# Altium footprint library LABLIB.PcbLib: 240 footprints (part 10 of 17)
Each footprint in its own frame and in the unit in brackets; x right, y up, seen from the top. Pads: shape width x height; smd on the part's side, far side on the other; paste and mask are expansions set on the pad; w line width, h text height; cw(c..) or ccw(c..) is an arc to the next point about the centre after c.
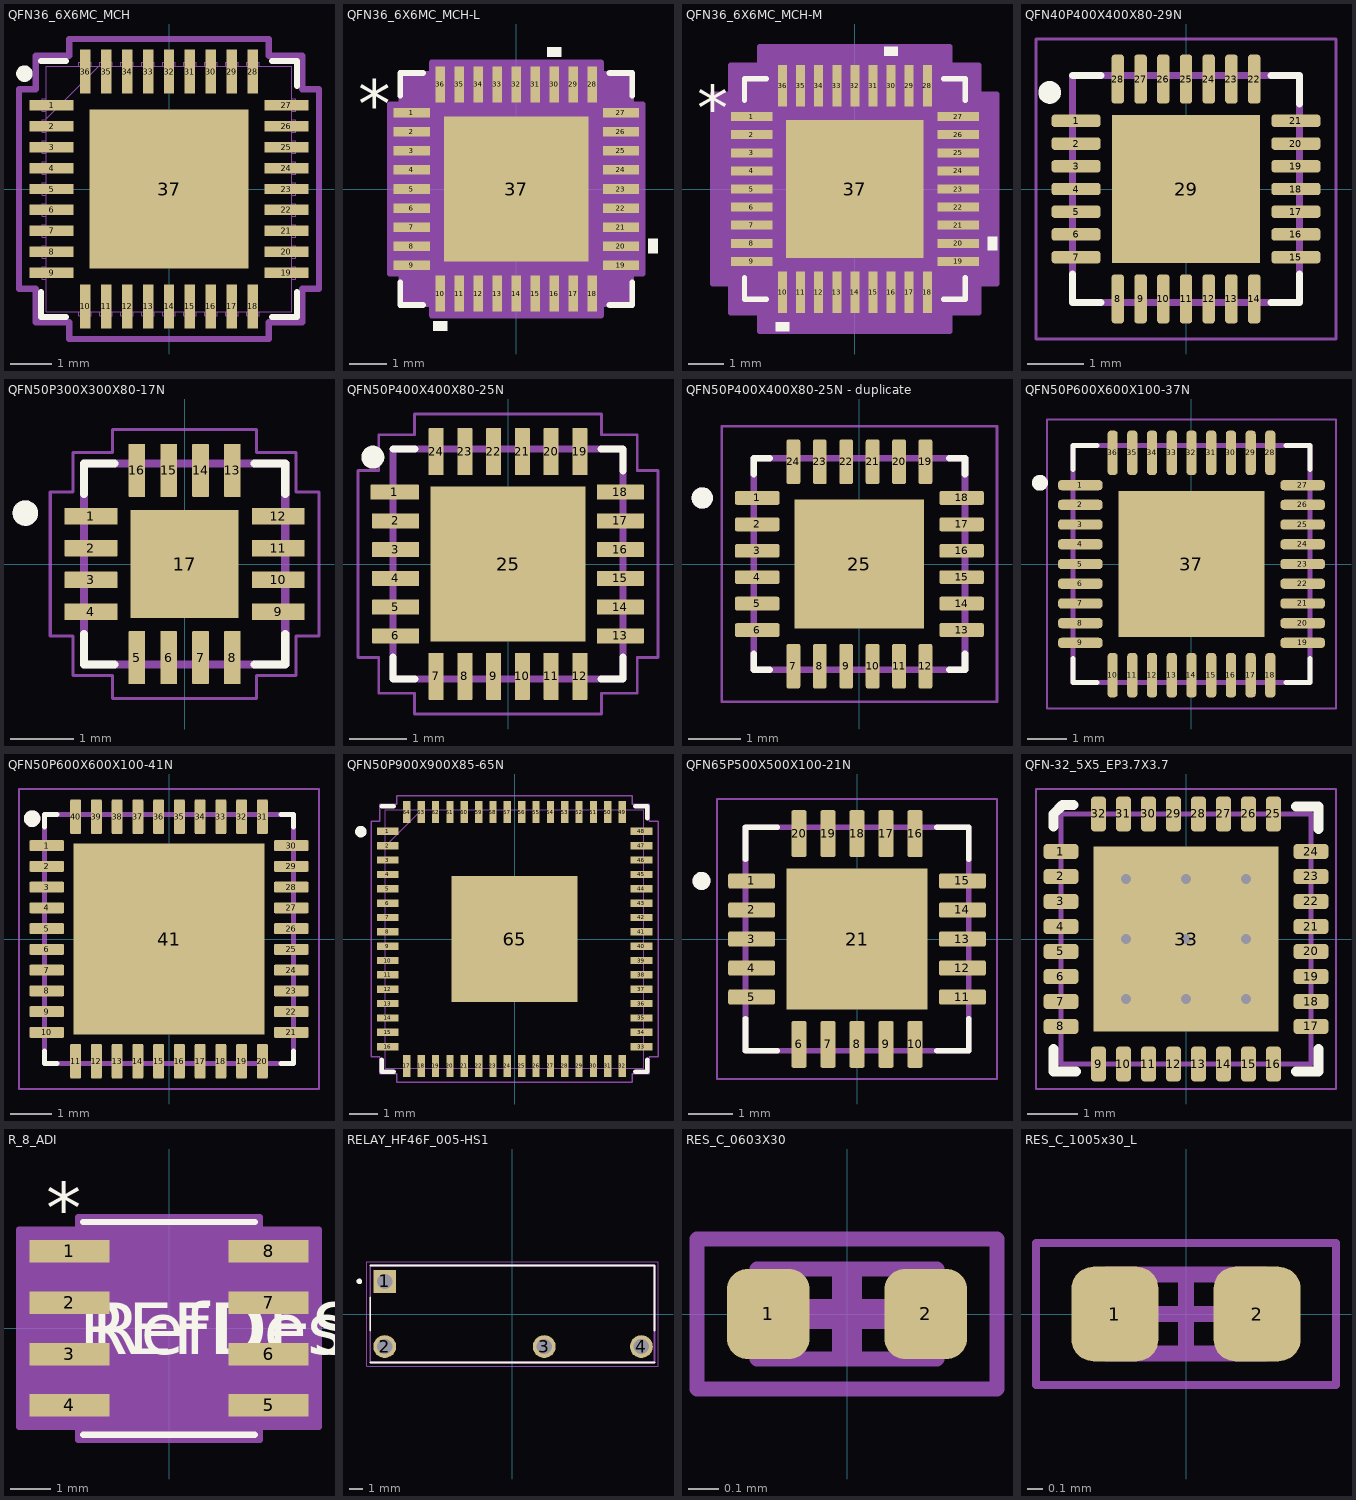
[diagram p9: the footprints below, top view; thin cyan lines are the x and y axes]

## QFN36_6X6MC_MCH [mil]
pads (37):
  rect 42x10 smd paste+0 mask+0: 1(-112,80) 2(-112,60) 3(-112,40) 4(-112,20) 5(-112,0) 6(-112,-20) 7(-112,-40) 8(-112,-60) 9(-112,-80) 19(112,-80) 20(112,-60) 21(112,-40) 22(112,-20) 23(112,0) 24(112,20) 25(112,40) 26(112,60) 27(112,80)
  rect 10x42 smd paste+0 mask+0: 10(-80,-112) 11(-60,-112) 12(-40,-112) 13(-20,-112) 14(0,-112) 15(20,-112) 16(40,-112) 17(60,-112) 18(80,-112) 28(80,112) 29(60,112) 30(40,112) 31(20,112) 32(0,112) 33(-20,112) 34(-40,112) 35(-60,112) 36(-80,112)
  rect 152x152 smd paste-7.87 mask+0: 37(0,0)
Top Overlay:
  circle w7.87: c-137.81,109.99 r3.94
  lines w6: -122,-98.1 -122,-122 -98.1,-122 ; -122,122 -98.1,122 ; 98.1,-122 122,-122 122,-98.1 ; 98.1,122 122,122 122,98.1
Top Paste:
  drawing of 25 lines, arcs and shapes, not listed
Top Solder:
  region: 54.37,-78.5 54.37,78.5 78.5,78.5 78.5,-78.5
  region: 38.63,-78.5 38.63,78.5 23.37,78.5 23.37,-78.5
  region: 7.63,-78.5 7.63,78.5 -7.63,78.5 -7.63,-78.5
  region: -23.37,-78.5 -23.37,78.5 -38.63,78.5 -38.63,-78.5
  region: -78.5,-78.5 -78.5,78.5 -54.37,78.5 -54.37,-78.5
  region: -78.5,-78.5 -78.5,-54.37 78.5,-54.37 78.5,-78.5
  region: -78.5,-38.63 -78.5,-23.37 78.5,-23.37 78.5,-38.63
  region: -78.5,-7.63 -78.5,7.63 78.5,7.63 78.5,-7.63
  region: -78.5,23.37 -78.5,38.63 78.5,38.63 78.5,23.37
  region: -78.5,54.37 -78.5,78.5 78.5,78.5 78.5,54.37
Top Courtyard:
  lines w6: -143,-95 -127,-95 -127,-127 -95,-127 -95,-143 95,-143 95,-127 127,-127 127,-95 143,-95 143,95 127,95 127,127 95,127 95,143 -95,143 -95,127 -127,127 -127,95 -143,95 -143,-95
Mechanical 13:
  lines w1: -117,67 -67,117 ; -121,-86 -117,-86 -117,-74 -121,-74 -121,-86 ; -121,-66 -117,-66 -117,-54 -121,-54 -121,-66 ; -121,-46 -117,-46 -117,-34 -121,-34 -121,-46 ; -121,-26 -117,-26 -117,-14 -121,-14 -121,-26 ; -121,-6 -117,-6 -117,6 -121,6 -121,-6 ; -121,14 -117,14 -117,26 -121,26 -121,14 ; -121,34 -117,34 -117,46 -121,46 -121,34 ; -121,54 -117,54 -117,66 -121,66 -121,54 ; -121,74 -117,74 -117,86 -121,86 -121,74 ; -117,-117 -117,117 117,117 117,-117 -117,-117 ; -86,-121 -74,-121 -74,-117 -86,-117 -86,-121 ; -86,117 -86,121 -74,121 -74,117 -86,117 ; -66,-121 -54,-121 -54,-117 -66,-117 -66,-121 ; -66,117 -66,121 -54,121 -54,117 -66,117 ; -46,-121 -34,-121 -34,-117 -46,-117 -46,-121 ; -46,117 -46,121 -34,121 -34,117 -46,117 ; -26,-121 -14,-121 -14,-117 -26,-117 -26,-121 ; -26,117 -26,121 -14,121 -14,117 -26,117 ; -6,-121 6,-121 6,-117 -6,-117 -6,-121 ; -6,117 -6,121 6,121 6,117 -6,117 ; 14,-121 26,-121 26,-117 14,-117 14,-121 ; 14,117 14,121 26,121 26,117 14,117 ; 34,-121 46,-121 46,-117 34,-117 34,-121 ; 34,117 34,121 46,121 46,117 34,117 ; 54,-121 66,-121 66,-117 54,-117 54,-121 ; 54,117 54,121 66,121 66,117 54,117 ; 74,-121 86,-121 86,-117 74,-117 74,-121 ; 74,117 74,121 86,121 86,117 74,117 ; 117,-86 121,-86 121,-74 117,-74 117,-86 ; 117,-66 121,-66 121,-54 117,-54 117,-66 ; 117,-46 121,-46 121,-34 117,-34 117,-46 ; 117,-26 121,-26 121,-14 117,-14 117,-26 ; 117,-6 121,-6 121,6 117,6 117,-6 ; 117,14 121,14 121,26 117,26 117,14 ; 117,34 121,34 121,46 117,46 117,34 ; 117,54 121,54 121,66 117,66 117,54 ; 117,74 121,74 121,86 117,86 117,74
  text "*" at -103.5,65 h50
  text ".Designator" at -137.8,-23.62 h50
3D body "QFN36_6X6MC_MCH.step": height 65.12, standoff 0, extent -120.98,-120.98 120.98,120.98

## QFN36_6X6MC_MCH-L [mil]
pads (37):
  rect 38x10 smd paste+0 mask+0: 1(-110,80) 2(-110,60) 3(-110,40) 4(-110,20) 5(-110,0) 6(-110,-20) 7(-110,-40) 8(-110,-60) 9(-110,-80) 19(110,-80) 20(110,-60) 21(110,-40) 22(110,-20) 23(110,0) 24(110,20) 25(110,40) 26(110,60) 27(110,80)
  rect 10x38 smd paste+0 mask+0: 10(-80,-110) 11(-60,-110) 12(-40,-110) 13(-20,-110) 14(0,-110) 15(20,-110) 16(40,-110) 17(60,-110) 18(80,-110) 28(80,110) 29(60,110) 30(40,110) 31(20,110) 32(0,110) 33(-20,110) 34(-40,110) 35(-60,110) 36(-80,110)
  rect 152x152 smd paste-75.5 mask-75.5: 37(0,0)
Top Overlay:
  region: 47.5,139 32.5,139 32.5,149 47.5,149
  region: 139,-52.5 149,-52.5 149,-67.5 139,-67.5
  region: -72.5,-139 -87.5,-139 -87.5,-149 -72.5,-149
  lines w6: -122,-98.1 -122,-122 -98.1,-122 ; -122,98.1 -122,122 -98.1,122 ; 98.1,-122 122,-122 122,-98.1 ; 98.1,122 122,122 122,98.1
  text ".Designator" at -137.5,-25 h50
  text "*" at -166.5,65 h50
Top Paste:
  drawing of 25 lines, arcs and shapes, not listed
Top Solder:
  region: 54.37,-78.5 54.37,78.5 78.5,78.5 78.5,-78.5
  region: 38.63,-78.5 38.63,78.5 23.37,78.5 23.37,-78.5
  region: 7.63,-78.5 7.63,78.5 -7.63,78.5 -7.63,-78.5
  region: -23.37,-78.5 -23.37,78.5 -38.63,78.5 -38.63,-78.5
  region: -78.5,-78.5 -78.5,78.5 -54.37,78.5 -54.37,-78.5
  region: -78.5,-78.5 -78.5,-54.37 78.5,-54.37 78.5,-78.5
  region: -78.5,-38.63 -78.5,-23.37 78.5,-23.37 78.5,-38.63
  region: -78.5,-7.63 -78.5,7.63 78.5,7.63 78.5,-7.63
  region: -78.5,23.37 -78.5,38.63 78.5,38.63 78.5,23.37
  region: -78.5,54.37 -78.5,78.5 78.5,78.5 78.5,54.37
Mechanical 13:
  lines w1: -117,67 -67,117 ; -121,-86 -117,-86 -117,-74 -121,-74 -121,-86 ; -121,-66 -117,-66 -117,-54 -121,-54 -121,-66 ; -121,-46 -117,-46 -117,-34 -121,-34 -121,-46 ; -121,-26 -117,-26 -117,-14 -121,-14 -121,-26 ; -121,-6 -117,-6 -117,6 -121,6 -121,-6 ; -121,14 -117,14 -117,26 -121,26 -121,14 ; -121,34 -117,34 -117,46 -121,46 -121,34 ; -121,54 -117,54 -117,66 -121,66 -121,54 ; -121,74 -117,74 -117,86 -121,86 -121,74 ; -117,-117 -117,117 117,117 117,-117 -117,-117 ; -86,-121 -74,-121 -74,-117 -86,-117 -86,-121 ; -86,117 -86,121 -74,121 -74,117 -86,117 ; -66,-121 -54,-121 -54,-117 -66,-117 -66,-121 ; -66,117 -66,121 -54,121 -54,117 -66,117 ; -46,-121 -34,-121 -34,-117 -46,-117 -46,-121 ; -46,117 -46,121 -34,121 -34,117 -46,117 ; -26,-121 -14,-121 -14,-117 -26,-117 -26,-121 ; -26,117 -26,121 -14,121 -14,117 -26,117 ; -6,-121 6,-121 6,-117 -6,-117 -6,-121 ; -6,117 -6,121 6,121 6,117 -6,117 ; 14,-121 26,-121 26,-117 14,-117 14,-121 ; 14,117 14,121 26,121 26,117 14,117 ; 34,-121 46,-121 46,-117 34,-117 34,-121 ; 34,117 34,121 46,121 46,117 34,117 ; 54,-121 66,-121 66,-117 54,-117 54,-121 ; 54,117 54,121 66,121 66,117 54,117 ; 74,-121 86,-121 86,-117 74,-117 74,-121 ; 74,117 74,121 86,121 86,117 74,117 ; 117,-86 121,-86 121,-74 117,-74 117,-86 ; 117,-66 121,-66 121,-54 117,-54 117,-66 ; 117,-46 121,-46 121,-34 117,-34 117,-46 ; 117,-26 121,-26 121,-14 117,-14 117,-26 ; 117,-6 121,-6 121,6 117,6 117,-6 ; 117,14 121,14 121,26 117,26 117,14 ; 117,34 121,34 121,46 117,46 117,34 ; 117,54 121,54 121,66 117,66 117,54 ; 117,74 121,74 121,86 117,86 117,74
  text "*" at -103.5,65 h50
  text ".Designator" at -137.5,-25 h50
Mechanical 15:
  region: -89,-121 -121,-121 -121,-89 -133,-89 -133,89 -121,89 -121,121 -89,121 -89,133 89,133 89,121 121,121 121,89 133,89 133,-89 121,-89 121,-121 89,-121 89,-133 -89,-133
  lines w6: -133,-89 -133,89 -121,89 -121,121 -89,121 -89,133 89,133 89,121 121,121 121,89 133,89 133,-89 121,-89 121,-121 89,-121 89,-133 -89,-133 -89,-121 -121,-121 -121,-89 -133,-89
3D body "QFN36_6X6MC_MCH.step": height 65.12, standoff 0, extent -120.98,-120.98 120.98,120.98

## QFN36_6X6MC_MCH-M [mil]
pads (37):
  rect 46x10 smd paste+0 mask+0: 1(-114,80) 2(-114,60) 3(-114,40) 4(-114,20) 5(-114,0) 6(-114,-20) 7(-114,-40) 8(-114,-60) 9(-114,-80) 19(114,-80) 20(114,-60) 21(114,-40) 22(114,-20) 23(114,0) 24(114,20) 25(114,40) 26(114,60) 27(114,80)
  rect 10x46 smd paste+0 mask+0: 10(-80,-114) 11(-60,-114) 12(-40,-114) 13(-20,-114) 14(0,-114) 15(20,-114) 16(40,-114) 17(60,-114) 18(80,-114) 28(80,114) 29(60,114) 30(40,114) 31(20,114) 32(0,114) 33(-20,114) 34(-40,114) 35(-60,114) 36(-80,114)
  rect 152x152 smd paste-75.5 mask-75.5: 37(0,0)
Top Overlay:
  region: -72.5,-147 -87.5,-147 -87.5,-157 -72.5,-157
  region: 147,-52.5 157,-52.5 157,-67.5 147,-67.5
  region: 47.5,147 32.5,147 32.5,157 47.5,157
  lines w6: -122,-98.1 -122,-122 -98.1,-122 ; -122,98.1 -122,122 -98.1,122 ; 98.1,-122 122,-122 122,-98.1 ; 98.1,122 122,122 122,98.1
  text "*" at -174.5,65 h50
  text ".Designator" at -137.5,-25 h50
Top Paste:
  drawing of 25 lines, arcs and shapes, not listed
Top Solder:
  region: -78.5,54.37 -78.5,78.5 78.5,78.5 78.5,54.37
  region: -78.5,23.37 -78.5,38.63 78.5,38.63 78.5,23.37
  region: -78.5,-7.63 -78.5,7.63 78.5,7.63 78.5,-7.63
  region: -78.5,-38.63 -78.5,-23.37 78.5,-23.37 78.5,-38.63
  region: -78.5,-78.5 -78.5,-54.37 78.5,-54.37 78.5,-78.5
  region: -78.5,-78.5 -78.5,78.5 -54.37,78.5 -54.37,-78.5
  region: -23.37,-78.5 -23.37,78.5 -38.63,78.5 -38.63,-78.5
  region: 7.63,-78.5 7.63,78.5 -7.63,78.5 -7.63,-78.5
  region: 38.63,-78.5 38.63,78.5 23.37,78.5 23.37,-78.5
  region: 54.37,-78.5 54.37,78.5 78.5,78.5 78.5,-78.5
Mechanical 13:
  lines w1: -117,67 -67,117 ; -121,-86 -121,-74 -117,-74 -117,-86 -121,-86 ; -121,-66 -121,-54 -117,-54 -117,-66 -121,-66 ; -121,-46 -121,-34 -117,-34 -117,-46 -121,-46 ; -121,-26 -121,-14 -117,-14 -117,-26 -121,-26 ; -121,-6 -121,6 -117,6 -117,-6 -121,-6 ; -121,14 -121,26 -117,26 -117,14 -121,14 ; -121,34 -121,46 -117,46 -117,34 -121,34 ; -121,54 -121,66 -117,66 -117,54 -121,54 ; -121,74 -121,86 -117,86 -117,74 -121,74 ; -117,-117 117,-117 117,117 -117,117 -117,-117 ; -86,-121 -86,-117 -74,-117 -74,-121 -86,-121 ; -86,117 -74,117 -74,121 -86,121 -86,117 ; -66,-121 -66,-117 -54,-117 -54,-121 -66,-121 ; -66,117 -54,117 -54,121 -66,121 -66,117 ; -46,-121 -46,-117 -34,-117 -34,-121 -46,-121 ; -46,117 -34,117 -34,121 -46,121 -46,117 ; -26,-121 -26,-117 -14,-117 -14,-121 -26,-121 ; -26,117 -14,117 -14,121 -26,121 -26,117 ; -6,-121 -6,-117 6,-117 6,-121 -6,-121 ; -6,117 6,117 6,121 -6,121 -6,117 ; 14,-121 14,-117 26,-117 26,-121 14,-121 ; 14,117 26,117 26,121 14,121 14,117 ; 34,-121 34,-117 46,-117 46,-121 34,-121 ; 34,117 46,117 46,121 34,121 34,117 ; 54,-121 54,-117 66,-117 66,-121 54,-121 ; 54,117 66,117 66,121 54,121 54,117 ; 74,-121 74,-117 86,-117 86,-121 74,-121 ; 74,117 86,117 86,121 74,121 74,117 ; 117,-86 117,-74 121,-74 121,-86 117,-86 ; 117,-66 117,-54 121,-54 121,-66 117,-66 ; 117,-46 117,-34 121,-34 121,-46 117,-46 ; 117,-26 117,-14 121,-14 121,-26 117,-26 ; 117,-6 117,6 121,6 121,-6 117,-6 ; 117,14 117,26 121,26 121,14 117,14 ; 117,34 117,46 121,46 121,34 117,34 ; 117,54 117,66 121,66 121,54 117,54 ; 117,74 117,86 121,86 121,74 117,74
  text ".Designator" at -137.5,-25 h50
  text "*" at -103.5,65 h50
Mechanical 15:
  region: -105,-137 -137,-137 -137,-105 -157,-105 -157,105 -137,105 -137,137 -105,137 -105,157 105,157 105,137 137,137 137,105 157,105 157,-105 137,-105 137,-137 105,-137 105,-157 -105,-157
  lines w6: -157,-105 -137,-105 -137,-137 -105,-137 -105,-157 105,-157 105,-137 137,-137 137,-105 157,-105 157,105 137,105 137,137 105,137 105,157 -105,157 -105,137 -137,137 -137,105 -157,105 -157,-105
3D body "QFN36_6X6MC_MCH.step": height 65.12, standoff 0, extent -120.98,-120.98 120.98,120.98

## QFN40P400X400X80-29N [mm]
pads (29):
  rrect50% 0.86x0.22 smd mask+0: 1(-1.935,1.2) 2(-1.935,0.8) 3(-1.935,0.4) 4(-1.935,0) 5(-1.935,-0.4) 6(-1.935,-0.8) 7(-1.935,-1.2) 15(1.935,-1.2) 16(1.935,-0.8) 17(1.935,-0.4) 18(1.935,0) 19(1.935,0.4) 20(1.935,0.8) 21(1.935,1.2)
  rrect50% 0.22x0.86 smd mask+0: 8(-1.2,-1.935) 9(-0.8,-1.935) 10(-0.4,-1.935) 11(0,-1.935) 12(0.4,-1.935) 13(0.8,-1.935) 14(1.2,-1.935) 22(1.2,1.935) 23(0.8,1.935) 24(0.4,1.935) 25(0,1.935) 26(-0.4,1.935) 27(-0.8,1.935) 28(-1.2,1.935)
  rect 2.6x2.6 smd paste-0.2 mask+0.05: 29(0,0)
Top Overlay:
  circle w0.2: c-2.4,1.7 r0.1
  lines w0.127: -2,-1.5 -2,-2 -1.5,-2 ; -2,2 -1.5,2 ; 1.5,-2 2,-2 2,-1.5 ; 1.5,2 2,2 2,1.5
Top Paste:
  region: 1.045,-1.045 0.125,-1.045 0.125,-0.125 1.045,-0.125
  region: -0.125,-1.045 -1.045,-1.045 -1.045,-0.125 -0.125,-0.125
  region: -0.125,0.125 -1.045,0.125 -1.045,1.045 -0.125,1.045
  region: 1.045,0.125 0.125,0.125 0.125,1.045 1.045,1.045
Top Courtyard:
  lines w0.05: -2.64,-2.64 -2.64,2.64 2.64,2.64 2.64,-2.64 -2.64,-2.64
Top Component Outline:
  lines w0.127: -2,-2 -2,2 2,2 2,-2 -2,-2

## QFN50P300X300X80-17N [mm]
pads (17):
  rrect7% 0.83x0.26 smd mask+0.04: 1(-1.47,0.75) 2(-1.47,0.25) 3(-1.47,-0.25) 4(-1.47,-0.75) 9(1.47,-0.75) 10(1.47,-0.25) 11(1.47,0.25) 12(1.47,0.75)
  rrect7% 0.26x0.83 smd mask+0.04: 5(-0.75,-1.47) 6(-0.25,-1.47) 7(0.25,-1.47) 8(0.75,-1.47) 13(0.75,1.47) 14(0.25,1.47) 15(-0.25,1.47) 16(-0.75,1.47)
  rect 1.7x1.7 smd paste-0.2 mask+0.04: 17(0,0)
Top Overlay:
  circle w0.2: c-2.5,0.8 r0.1
  lines w0.127: -1.58,-1.1 -1.58,-1.58 -1.1,-1.58 ; -1.58,1.1 -1.58,1.58 -1.1,1.58 ; 1.1,-1.58 1.58,-1.58 1.58,-1.1 ; 1.1,1.58 1.58,1.58 1.58,1.1
Top Paste:
  region: -0.085,-0.685 -0.685,-0.685 -0.685,-0.085 -0.085,-0.085
  region: 0.685,-0.686 0.085,-0.686 0.085,-0.085 0.685,-0.085
  region: -0.085,0.085 -0.685,0.085 -0.685,0.685 -0.085,0.685
  region: 0.685,0.085 0.085,0.085 0.085,0.685 0.685,0.685
Top Assembly:
  text "'.Designator'" at -3.952,-0.622 h1.5
Top Courtyard:
  lines w0.05: -2.11,-1.13 -1.75,-1.13 -1.75,-1.75 -1.13,-1.75 -1.13,-2.11 1.13,-2.11 1.13,-1.75 1.75,-1.75 1.75,-1.13 2.11,-1.13 2.11,1.13 1.75,1.13 1.75,1.75 1.13,1.75 1.13,2.11 -1.13,2.11 -1.13,1.75 -1.75,1.75 -1.75,1.13 -2.11,1.13 -2.11,-1.13
Top Component Center:
  circle w0.05: c0,0 r0.3
  lines w0.05: -0.5,0 0.5,0 ; 0,-0.5 0,0.5
Mechanical 13:
  circle w0.2: c-2.5,0.8 r0.1
  lines w0.127: -1.58,-1.58 1.58,-1.58 1.58,1.58 -1.58,1.58 -1.58,-1.58
3D body "step_temp.STEP": height 0.8, standoff 0, extent -1.5,-1.5 1.5,1.5

## QFN50P400X400X80-25N [mm]
pads (25):
  rrect7% 0.84x0.26 smd mask+0.05: 1(-1.97,1.25)
  rrect7% 0.82x0.26 smd mask+0.05: 2(-1.955,0.75) 3(-1.955,0.25) 4(-1.955,-0.25) 5(-1.955,-0.75) 6(-1.955,-1.25) 13(1.955,-1.25) 14(1.955,-0.75) 15(1.955,-0.25) 16(1.955,0.25) 17(1.955,0.75) 18(1.955,1.25)
  rrect7% 0.26x0.82 smd mask+0.05: 7(-1.25,-1.955) 8(-0.75,-1.955) 9(-0.25,-1.955) 10(0.25,-1.955) 11(0.75,-1.955) 12(1.25,-1.955) 19(1.25,1.955) 20(0.75,1.955) 21(0.25,1.955) 22(-0.25,1.955) 23(-0.75,1.955) 24(-1.25,1.955)
  rect 2.7x2.7 smd paste-0.15 mask+0: 25(0,0)
Top Overlay:
  circle w0.2: c-2.352,1.859 r0.1
  lines w0.127: -2,-1.62 -2,-2 -1.62,-2 ; -2,2 -1.62,2 ; 1.62,-2 2,-2 2,-1.62 ; 1.62,2 2,2 2,1.62
Top Paste:
  region: 1.09,0.13 0.13,0.13 0.13,1.09 1.09,1.09
  region: -0.13,0.13 -1.09,0.13 -1.09,1.09 -0.13,1.09
  region: -0.13,-1.09 -1.09,-1.09 -1.09,-0.13 -0.13,-0.13
  region: 1.09,-1.09 0.13,-1.09 0.13,-0.13 1.09,-0.13
Top Assembly:
  lines w0.127: -2,-2 -2,2 2,2 2,-2 -2,-2
Top Courtyard:
  lines w0.05: -2.61,-1.63 -2.25,-1.63 -2.25,-2.25 -1.63,-2.25 -1.63,-2.61 1.63,-2.61 1.63,-2.25 2.25,-2.25 2.25,-1.63 2.61,-1.63 2.61,1.63 2.25,1.63 2.25,2.25 1.63,2.25 1.63,2.61 -1.63,2.61 -1.63,2.25 -2.25,2.25 -2.25,1.63 -2.61,1.63 -2.61,-1.63
3D body "step_temp.STEP": height 0.8, standoff 0, extent -2,-2 2,2

## QFN50P400X400X80-25N - duplicate [mm]
pads (25):
  rrect25% 0.84x0.26 smd: 1(-1.935,1.25) 2(-1.935,0.75) 3(-1.935,0.25) 4(-1.935,-0.25) 5(-1.935,-0.75) 6(-1.935,-1.25) 13(1.935,-1.25) 14(1.935,-0.75) 15(1.935,-0.25) 16(1.935,0.25) 17(1.935,0.75) 18(1.935,1.25)
  rrect25% 0.26x0.84 smd: 7(-1.25,-1.935) 8(-0.75,-1.935) 9(-0.25,-1.935) 10(0.25,-1.935) 11(0.75,-1.935) 12(1.25,-1.935) 19(1.25,1.935) 20(0.75,1.935) 21(0.25,1.935) 22(-0.25,1.935) 23(-0.75,1.935) 24(-1.25,1.935)
  rect 2.45x2.45 smd paste-0.455: 25(0,0)
Top Overlay:
  circle w0.2: c-2.975,1.25 r0.1
  lines w0.127: -2,-1.7 -2,-2 -1.7,-2 ; -2,1.7 -2,2 -1.7,2 ; 1.7,-2 2,-2 2,-1.7 ; 1.7,2 2,2 2,1.7
Mechanical 13:
  circle w0.2: c-2.975,1.25 r0.1
  lines w0.127: -2,-2 -2,2 2,2 2,-2 -2,-2
Mechanical 15:
  lines w0.05: -2.605,-2.605 -2.605,2.605 2.605,2.605 2.605,-2.605 -2.605,-2.605

## QFN50P600X600X100-37N [mm]
pads (37):
  rrect70% 1.13x0.26 smd: 1(-2.82,2) 2(-2.82,1.5) 3(-2.82,1) 4(-2.82,0.5) 5(-2.82,0) 6(-2.82,-0.5) 7(-2.82,-1) 8(-2.82,-1.5) 9(-2.82,-2) 19(2.82,-2) 20(2.82,-1.5) 21(2.82,-1) 22(2.82,-0.5) 23(2.82,0) 24(2.82,0.5) 25(2.82,1) 26(2.82,1.5) 27(2.82,2)
  rrect70% 0.26x1.13 smd: 10(-2,-2.82) 11(-1.5,-2.82) 12(-1,-2.82) 13(-0.5,-2.82) 14(0,-2.82) 15(0.5,-2.82) 16(1,-2.82) 17(1.5,-2.82) 18(2,-2.82) 28(2,2.82) 29(1.5,2.82) 30(1,2.82) 31(0.5,2.82) 32(0,2.82) 33(-0.5,2.82) 34(-1,2.82) 35(-1.5,2.82) 36(-2,2.82)
  rect 3.7x3.7 smd paste-0.677: 37(0,0)
Top Overlay:
  circle w0.2: c-3.843,2.058 r0.1
  lines w0.127: -3,-2.4 -3,-3 -2.4,-3 ; -3,2.4 -3,3 -2.4,3 ; 2.4,-3 3,-3 3,-2.4 ; 2.4,3 3,3 3,2.4
Top Assembly:
  text "'.Designator'" at -3.952,-0.622 h1.5
Top Component Center:
  circle w0.05: c0,0 r0.3
  lines w0.05: -0.5,0 0.5,0 ; 0,-0.5 0,0.5
Mechanical 13:
  lines w0.127: -3,-3 3,-3 3,3 -3,3 -3,-3
Mechanical 15:
  lines w0.05: -3.665,-3.665 3.665,-3.665 3.665,3.665 -3.665,3.665 -3.665,-3.665
3D body "step_temp.STEP": height 1, standoff 0, extent -3,-3 3,3

## QFN50P600X600X100-41N [mm]
height 1
pads (41):
  rrect25% 0.84x0.26 smd mask+0.05: 1(-2.945,2.25) 2(-2.945,1.75) 3(-2.945,1.25) 4(-2.945,0.75) 5(-2.945,0.25) 6(-2.945,-0.25) 7(-2.945,-0.75) 8(-2.945,-1.25) 9(-2.945,-1.75) 10(-2.945,-2.25) 21(2.945,-2.25) 22(2.945,-1.75) 23(2.945,-1.25) 24(2.945,-0.75) 25(2.945,-0.25) 26(2.945,0.25) 27(2.945,0.75) 28(2.945,1.25) 29(2.945,1.75) 30(2.945,2.25)
  rrect25% 0.26x0.84 smd mask+0.05: 11(-2.25,-2.945) 12(-1.75,-2.945) 13(-1.25,-2.945) 14(-0.75,-2.945) 15(-0.25,-2.945) 16(0.25,-2.945) 17(0.75,-2.945) 18(1.25,-2.945) 19(1.75,-2.945) 20(2.25,-2.945) 31(2.25,2.945) 32(1.75,2.945) 33(1.25,2.945) 34(0.75,2.945) 35(0.25,2.945) 36(-0.25,2.945) 37(-0.75,2.945) 38(-1.25,2.945) 39(-1.75,2.945) 40(-2.25,2.945)
  rect 4.6x4.6 smd paste-3 mask+0.05: 41(0,0)
Top Overlay:
  circle w0.2: c-3.3,2.9 r0.1
  lines w0.127: -3,-2.7 -3,-3 -2.7,-3 ; -3,2.7 -3,3 -2.7,3 ; 2.7,-3 3,-3 3,-2.7 ; 2.7,3 3,3 3,2.7
Top Paste:
  region: -0.425,0.425 -1.885,0.425 -1.885,1.885 -0.425,1.885
  region: 1.885,0.425 0.425,0.425 0.425,1.885 1.885,1.885
  region: -0.425,-1.885 -1.885,-1.885 -1.885,-0.425 -0.425,-0.425
  region: 1.885,-1.885 0.425,-1.885 0.425,-0.425 1.885,-0.425
Top Assembly:
  text "'.Designator'" at -3.952,-0.622 h1.5
Top Component Center:
  circle w0.05: c0,0 r0.3
  lines w0.05: -0.5,0 0.5,0 ; 0,-0.5 0,0.5
Mechanical 13:
  circle w0.2: c-3.3,2.9 r0.1
  lines w0.127: -3,-3 3,-3 3,3 -3,3 -3,-3
Mechanical 15:
  lines w0.05: -3.615,-3.615 3.615,-3.615 3.615,3.615 -3.615,3.615 -3.615,-3.615
3D body "AD4114BCPZ.STEP": height 1, standoff 0, extent -3,-3 3,3

## QFN50P900X900X85-65N [mil]
pads (65):
  rect 30x10 smd paste+0 mask+0: 1(-174,147.68) 2(-174,127.98) 3(-174,108.3) 4(-174,88.61) 5(-174,68.92) 6(-174,49.23) 7(-174,29.54) 8(-174,9.85) 9(-174,-9.85) 10(-174,-29.54) 11(-174,-49.23) 12(-174,-68.92) 13(-174,-88.61) 14(-174,-108.3) 15(-174,-127.98) 16(-174,-147.68) 33(174,-147.68) 34(174,-127.98) 35(174,-108.3) 36(174,-88.61) 37(174,-68.92) 38(174,-49.23) 39(174,-29.54) 40(174,-9.85) 41(174,9.85) 42(174,29.54) 43(174,49.23) 44(174,68.92) 45(174,88.61) 46(174,108.3) 47(174,127.98) 48(174,147.68)
  rect 10x30 smd paste+0 mask+0: 17(-147.68,-174) 18(-127.98,-174) 19(-108.3,-174) 20(-88.61,-174) 21(-68.92,-174) 22(-49.23,-174) 23(-29.54,-174) 24(-9.85,-174) 25(9.85,-174) 26(29.54,-174) 27(49.23,-174) 28(68.92,-174) 29(88.61,-174) 30(108.3,-174) 31(127.98,-174) 32(147.68,-174) 49(147.68,174) 50(127.98,174) 51(108.3,174) 52(88.61,174) 53(68.92,174) 54(49.23,174) 55(29.54,174) 56(9.85,174) 57(-9.85,174) 58(-29.54,174) 59(-49.23,174) 60(-68.92,174) 61(-88.61,174) 62(-108.3,174) 63(-127.98,174) 64(-147.68,174)
  rect 173x173 smd paste-86.5 mask+0: 65(0,0)
Top Overlay:
  circle w7.87: c-210.79,147.24 r3.94
  lines w6: -182,-165.78 -182,-182 -165.78,-182 ; -182,182 -165.78,182 ; 165.78,-182 182,-182 182,-165.78 ; 165.78,182 182,182 182,165.78
Top Paste:
  region: -32.77,82.56 -82.56,82.56 -82.56,32.77 -32.77,32.77
  region: -32.77,24.9 -82.56,24.9 -82.56,-24.9 -32.77,-24.9
  region: -32.77,-32.77 -82.56,-32.77 -82.56,-82.56 -32.77,-82.56
  region: 24.9,82.56 -24.9,82.56 -24.9,32.77 24.9,32.77
  region: 24.9,24.9 -24.9,24.9 -24.9,-24.9 24.9,-24.9
  region: 24.9,-32.77 -24.9,-32.77 -24.9,-82.56 24.9,-82.56
  region: 82.56,82.56 32.77,82.56 32.77,32.77 82.56,32.77
  region: 82.56,24.9 32.77,24.9 32.77,-24.9 82.56,-24.9
  region: 82.56,-32.77 32.77,-32.77 32.77,-82.56 82.56,-82.56
Top Assembly:
  lines w1: -177,127 -127,177 ; -177,-177 177,-177 177,177 -177,177 -177,-177 ; -177,-153.68 -177,-141.68 -177,-153.68 ; -177,-133.99 -177,-121.98 -177,-133.99 ; -177,-114.3 -177,-102.3 -177,-114.3 ; -177,-94.61 -177,-82.61 -177,-94.61 ; -177,-74.92 -177,-62.91 -177,-74.92 ; -177,-55.23 -177,-43.23 -177,-55.23 ; -177,-35.53 -177,-23.54 -177,-35.53 ; -177,-15.85 -177,-3.85 -177,-15.85 ; -177,3.85 -177,15.85 -177,3.85 ; -177,23.54 -177,35.53 -177,23.54 ; -177,43.23 -177,55.23 -177,43.23 ; -177,62.91 -177,74.92 -177,62.91 ; -177,82.61 -177,94.61 -177,82.61 ; -177,102.3 -177,114.3 -177,102.3 ; -177,121.98 -177,133.99 -177,121.98 ; -177,141.68 -177,153.68 -177,141.68 ; -153.68,-177 -141.68,-177 -153.68,-177 ; -153.68,177 -141.68,177 -153.68,177 ; -133.99,-177 -121.98,-177 -133.99,-177 ; -133.99,177 -121.98,177 -133.99,177 ; -114.3,-177 -102.3,-177 -114.3,-177 ; -114.3,177 -102.3,177 -114.3,177 ; -94.61,-177 -82.61,-177 -94.61,-177 ; -94.61,177 -82.61,177 -94.61,177 ; -74.92,-177 -62.91,-177 -74.92,-177 ; -74.92,177 -62.91,177 -74.92,177 ; -55.23,-177 -43.23,-177 -55.23,-177 ; -55.23,177 -43.23,177 -55.23,177 ; -35.53,-177 -23.54,-177 -35.53,-177 ; -35.53,177 -23.54,177 -35.53,177 ; -15.85,-177 -3.85,-177 -15.85,-177 ; -15.85,177 -3.85,177 -15.85,177 ; 3.85,-177 15.85,-177 3.85,-177 ; 3.85,177 15.85,177 3.85,177 ; 23.54,-177 35.53,-177 23.54,-177 ; 23.54,177 35.53,177 23.54,177 ; 43.23,-177 55.23,-177 43.23,-177 ; 43.23,177 55.23,177 43.23,177 ; 62.91,-177 74.92,-177 62.91,-177 ; 62.91,177 74.92,177 62.91,177 ; 82.61,-177 94.61,-177 82.61,-177 ; 82.61,177 94.61,177 82.61,177 ; 102.3,-177 114.3,-177 102.3,-177 ; 102.3,177 114.3,177 102.3,177 ; 121.98,-177 133.99,-177 121.98,-177 ; 121.98,177 133.99,177 121.98,177 ; 141.68,-177 153.68,-177 141.68,-177 ; 141.68,177 153.68,177 141.68,177 ; 177,-153.68 177,-141.68 177,-153.68 ; 177,-133.99 177,-121.98 177,-133.99 ; 177,-114.3 177,-102.3 177,-114.3 ; 177,-94.61 177,-82.61 177,-94.61 ; 177,-74.92 177,-62.91 177,-74.92 ; 177,-55.23 177,-43.23 177,-55.23 ; 177,-35.53 177,-23.54 177,-35.53 ; 177,-15.85 177,-3.85 177,-15.85 ; 177,3.85 177,15.85 177,3.85 ; 177,23.54 177,35.53 177,23.54 ; 177,43.23 177,55.23 177,43.23 ; 177,62.91 177,74.92 177,62.91 ; 177,82.61 177,94.61 177,82.61 ; 177,102.3 177,114.3 177,102.3 ; 177,121.98 177,133.99 177,121.98 ; 177,141.68 177,153.68 177,141.68
Top Courtyard:
  lines w1.97: -196.85,-161.42 -185.04,-161.42 -185.04,-185.04 -161.42,-185.04 -161.42,-196.85 161.42,-196.85 161.42,-185.04 185.04,-185.04 185.04,-161.42 196.85,-161.42 196.85,161.42 185.04,161.42 185.04,185.04 161.42,185.04 161.42,196.85 -161.42,196.85 -161.42,185.04 -185.04,185.04 -185.04,161.42 -196.85,161.42 -196.85,-161.42
3D body "QFN_32HQ-REEL_FTD.step": height 35.12, standoff 0, extent -177.01,-177.01 177.01,177.01

## QFN65P500X500X100-21N [mm]
pads (21):
  rrect25% 1.05x0.34 smd mask+0.05: 1(-2.36,1.3) 2(-2.36,0.65) 3(-2.36,0) 4(-2.36,-0.65) 5(-2.36,-1.3) 11(2.36,-1.3) 12(2.36,-0.65) 13(2.36,0) 14(2.36,0.65) 15(2.36,1.3)
  rrect25% 0.34x1.05 smd mask+0.05: 6(-1.3,-2.36) 7(-0.65,-2.36) 8(0,-2.36) 9(0.65,-2.36) 10(1.3,-2.36) 16(1.3,2.36) 17(0.65,2.36) 18(0,2.36) 19(-0.65,2.36) 20(-1.3,2.36)
  rect 3.15x3.15 smd paste-0.3 mask+0.05: 21(0,0)
Top Overlay:
  circle w0.2: c-3.485,1.3 r0.1
  lines w0.127: -2.5,-1.79 -2.5,-2.5 -1.79,-2.5 ; -2.5,1.79 -2.5,2.5 -1.79,2.5 ; 1.79,-2.5 2.5,-2.5 2.5,-1.79 ; 1.79,2.5 2.5,2.5 2.5,1.79
Top Paste:
  region: -0.195,-1.195 -1.195,-1.195 -1.195,-0.195 -0.195,-0.195
  region: -0.195,0.195 -1.195,0.195 -1.195,1.195 -0.195,1.195
  region: 1.195,0.195 0.195,0.195 0.195,1.195 1.195,1.195
  region: 1.195,-1.195 0.195,-1.195 0.195,-0.195 1.195,-0.195
Top Courtyard:
  lines w0.05: -3.135,-3.135 -3.135,3.135 3.135,3.135 3.135,-3.135 -3.135,-3.135
Mechanical 13:
  circle w0.2: c-3.485,1.3 r0.1
  lines w0.127: -2.5,-2.5 2.5,-2.5 2.5,2.5 -2.5,2.5 -2.5,-2.5
3D body "step_temp.STEP": height 1, standoff 0, extent -2.5,-2.5 2.5,2.5

## QFN-32_5X5_EP3.7X3.7 [mm] "QFN32_5MMwith ePAD"
pads (33):
  rrect50% 0.7x0.3 smd mask+0.04: 1(-2.5,1.75) 2(-2.5,1.25) 3(-2.5,0.75) 4(-2.5,0.25) 5(-2.5,-0.25) 6(-2.5,-0.75) 7(-2.5,-1.25) 8(-2.5,-1.75) 17(2.5,-1.75) 18(2.5,-1.25) 19(2.5,-0.75) 20(2.5,-0.25) 21(2.5,0.25) 22(2.5,0.75) 23(2.5,1.25) 24(2.5,1.75)
  rrect50% 0.3x0.7 smd mask+0.04: 9(-1.75,-2.5) 10(-1.25,-2.5) 11(-0.75,-2.5) 12(-0.25,-2.5) 13(0.25,-2.5) 14(0.75,-2.5) 15(1.25,-2.5) 16(1.75,-2.5) 25(1.75,2.5) 26(1.25,2.5) 27(0.75,2.5) 28(0.25,2.5) 29(-0.25,2.5) 30(-0.75,2.5) 31(-1.25,2.5) 32(-1.75,2.5)
  rect 3.7x3.7 smd mask+0.05: 33(0,0)
via 0,0 diameter 0.4 hole 0.2
via -1.2,0 diameter 0.4 hole 0.2
via 1.2,0 diameter 0.4 hole 0.2
via -1.2,1.2 diameter 0.4 hole 0.2
via 0,1.2 diameter 0.4 hole 0.2
via 1.2,1.2 diameter 0.4 hole 0.2
via 1.2,-1.2 diameter 0.4 hole 0.2
via 0,-1.2 diameter 0.4 hole 0.2
via -1.2,-1.2 diameter 0.4 hole 0.2
Top Overlay:
  lines w0.2: -2.65,-2.2 -2.65,-2.65 -2.2,-2.65 ; -2.65,2.25 -2.65,2.5 -2.475,2.675 -2.25,2.675 ; 2.2,-2.65 2.65,-2.65 2.65,-2.2 ; 2.2,2.65 2.65,2.65 2.65,2.2
  text "." at -3.35,2.15 h1
Top Assembly:
  lines w0.1: -2.5,-2.5 2.5,-2.5 2.5,2.5 -2.5,2.5 -2.5,-2.5
  text ".Designator" at -0.525,-0.375 h1.02
  text "1" at -2.286,1.905 h0.76
Top Courtyard:
  lines w0.05: -3,-3 -3,3 3,3 3,-3 -3,-3
  lines w0.1: -0.305,-0.024 0.28,-0.024 ; 0,-0.303 0,0.255
3D body "User Library-VQFN-32.STEP": height 1.01, standoff 0, extent -2.56,-2.56 2.56,2.56

## R_8_ADI [mil]
pads (8):
  rect 78x22 smd paste+0 mask+0: 1(-97,75) 2(-97,25) 3(-97,-25) 4(-97,-75) 5(97,-75) 6(97,-25) 7(97,25) 8(97,75)
Top Overlay:
  lines w6: -83.5,-103.5 83.5,-103.5 ; -83.5,103.5 83.5,103.5
  text "REFDES" at -87.5,-25 h50
  text "*" at -119.5,92 h50
  text "RefDes" at -75,-25 h50
Mechanical 13:
  lines w0: -12,98.5 ccw(c0,98.5) 12,98.5
  lines w1: -122,-85 -122,-65 -78.5,-65 -78.5,-85 -122,-85 ; -122,-35 -122,-15 -78.5,-15 -78.5,-35 -122,-35 ; -122,15 -122,35 -78.5,35 -78.5,15 -122,15 ; -122,65 -122,85 -78.5,85 -78.5,65 -122,65 ; -78.5,-98.5 78.5,-98.5 78.5,98.5 -78.5,98.5 -78.5,-98.5 ; 78.5,-85 78.5,-65 122,-65 122,-85 78.5,-85 ; 78.5,-35 78.5,-15 122,-15 122,-35 78.5,-35 ; 78.5,15 78.5,35 122,35 122,15 78.5,15 ; 78.5,65 78.5,85 122,85 122,65 78.5,65
  text "*" at -76,45.5 h50
  text "RefDes2" at -87.5,-25 h50
Mechanical 15:
  region: -88.5,-96 -146,-96 -146,96 -88.5,96 -88.5,108.5 88.5,108.5 88.5,96 146,96 146,-96 88.5,-96 88.5,-108.5 -88.5,-108.5
  lines w6: -146,-96 -146,96 -88.5,96 -88.5,108.5 88.5,108.5 88.5,96 146,96 146,-96 88.5,-96 88.5,-108.5 -88.5,-108.5 -88.5,-96 -146,-96
3D body "R_8_ADI.step": height 69.09, standoff 0, extent -122.01,-98.5 122.01,98.5

## RELAY_HF46F_005-HS1 [mm]
height 15.6
pads (4):
  rect 1.65x1.65 / inner round 1.65 / far side rect 1.65x1.65 hole 1.1: 1(-9.2,2.35)
  round 1.65 hole 1.1: 2(-9.2,-2.35) 3(2.3,-2.35) 4(9.3,-2.35)
Top Overlay:
  circle w0.2: c-11.025,2.35 r0.1
  lines w0.127: -10.25,-3.495 -10.25,-3.5 10.25,-3.5 10.25,-3.495 ; -10.25,-1.205 -10.25,1.205 ; -10.25,3.495 -10.25,3.5 10.25,3.5 10.25,-1.205
Mechanical 13:
  circle w0.2: c-11.025,2.35 r0.1
  lines w0.127: -10.25,-3.5 10.25,-3.5 10.25,3.5 -10.25,3.5 -10.25,-3.5
Mechanical 15:
  lines w0.05: -10.5,-3.75 10.5,-3.75 10.5,3.75 -10.5,3.75 -10.5,-3.75
3D body "step_temp.STEP": height 15.6, standoff -3.7, extent -10.25,-3.5 10.25,3.5

## RES_C_0603X30 [mm] "Chip Resistor, 2-Leads, Body 0.6x0.3mm, IPC Medium Density"
height 0.23
pads (2):
  rrect50% 0.275x0.3 smd mask+0.05: 1(-0.262,0) 2(0.262,0)
Top Assembly:
  lines w0.05: -0.3,-0.15 -0.3,0.15 0.3,0.15 0.3,-0.15 -0.3,-0.15
  text ".Designator" at -0.225,-0.05 h0.13
Top Courtyard:
  lines w0.05: -0.5,-0.25 0.5,-0.25 0.5,0.25 -0.5,0.25 -0.5,-0.25
  lines w0.1: -0.125,0 0.125,0 ; 0,-0.125 0,0.125
3D body "User Library-SMD RESISTOR-10201.STEP": height 0.22, standoff -0.01, extent -0.3,-0.15 0.3,0.15

## RES_C_1005x30_L [mm] "Chip Resistor, 2-Leads, Body 1.0x0.5mm, IPC Medium Density"
height 0.35
pads (2):
  rrect50% 0.55x0.6 smd mask+0.05: 1(-0.45,0) 2(0.45,0)
Top Assembly:
  lines w0.1: -0.5,-0.25 0.5,-0.25 0.5,0.25 -0.5,0.25 -0.5,-0.25
  text ".Designator" at -0.5,0 h0.3
Top Courtyard:
  lines w0.05: -0.95,-0.45 -0.95,0.45 0.95,0.45 0.95,-0.45 -0.95,-0.45
  lines w0.1: -0.25,0 0.25,0 ; 0,-0.25 0,0.25
Top 3D Body:
  lines w0.1: -0.5,-0.25 -0.5,0.25 0.5,0.25 0.5,-0.25 -0.5,-0.25
3D body "RES_0402.step": height 0.2, standoff 0, extent -0.5,-0.3 0.5,0.3